# Altium schematic symbol library RC0402FR-07100KL.SchLib: 1 symbol
Pins are listed as number, name and electrical type; pins without a type are passive.

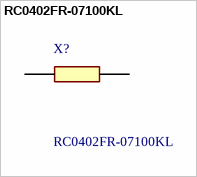
[diagram p0: symbol RC0402FR-07100KL]

## RC0402FR-07100KL
designator X?
GENERAL PURPOSE CHIP RESISTORS; Manufacturer_Name: Yageo Group; Geometry.Height: 0.4mm; Mouser Part Number: 603-RC0402FR-07100KL; Mouser Price/Stock: https://www.mouser.co.uk/ProductDetail/YAGEO/RC0402FR-07100KL?qs=mnq%2FyloZIXzTlUn7JAHSWg%3D%3D; Manufacturer_Part_Number: RC0402FR-07100KL; Datasheet Link: http://www.yageo.com/documents/recent/PYu-RC0402_51_RoHS_L_6_r.pdf
footprint RESC1005X40N
pins: 1, 2